# EAGLE library part L77SDBH25S-DB25 (library CYCFI_Con)
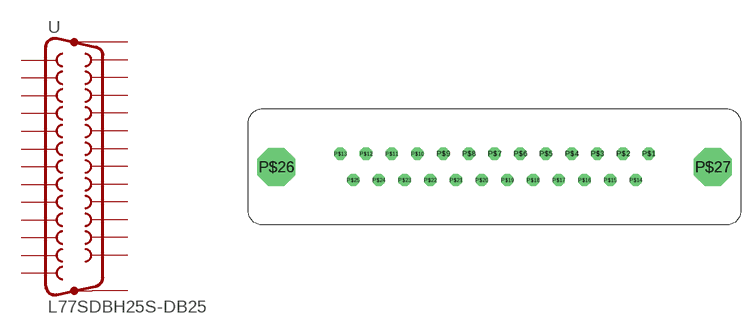
[diagram p10: symbol with the pads of DB_25_VERTICAL; footprint DB_25_VERTICAL]

Designator prefix -

## L77SDBH25S-DB25  [DB_25_VERTICAL]
P$1  1  pas
P$2  2  pas
P$3  3  pas
P$4  4  pas
P$5  5  pas
P$6  6  pas
P$7  7  pas
P$8  8  pas
P$9  9  pas
P$10  10  pas
P$11  11  pas
P$12  12  pas
P$13  13  pas
P$14  14  pas
P$15  15  pas
P$16  16  pas
P$17  17  pas
P$18  18  pas
P$19  19  pas
P$20  20  pas
P$21  21  pas
P$22  22  pas
P$23  23  pas
P$24  24  pas
P$25  25  pas
P$26  G1  pas
P$27  G2  pas

## Footprint DB_25_VERTICAL (pad centres in mm)
drill 0.8 octagon: P$1 16.62,1.42; P$2 13.85,1.42; P$3 11.08,1.42; P$4 8.31,1.42; P$5 5.54,1.42; P$6 2.77,1.42; P$7 0,1.42; P$8 -2.77,1.42; P$9 -5.54,1.42; P$10 -8.31,1.42; P$11 -11.08,1.42; P$12 -13.85,1.42; P$13 -16.62,1.42; P$14 15.235,-1.42; P$15 12.465,-1.42; P$16 9.695,-1.42; P$17 6.925,-1.42; P$18 4.155,-1.42; P$19 1.385,-1.42; P$20 -1.385,-1.42; P$21 -4.155,-1.42; P$22 -6.925,-1.42; P$23 -9.695,-1.42; P$24 -12.465,-1.42; P$25 -15.235,-1.42
drill 3.1 octagon: P$26 -23.52,0; P$27 23.52,0